# EAGLE library part ALTIMU-10_V4 (library @Club_Modules_capteurs)
Polulu AltIMU-10 v4 Gyro, Accelerometer, Compass, and Altimeter (L3GD20H, LSM303D, and LPS25H Carrier). https://www.pololu.com/product/2470 <3https://www.pololu.com/product/24703>
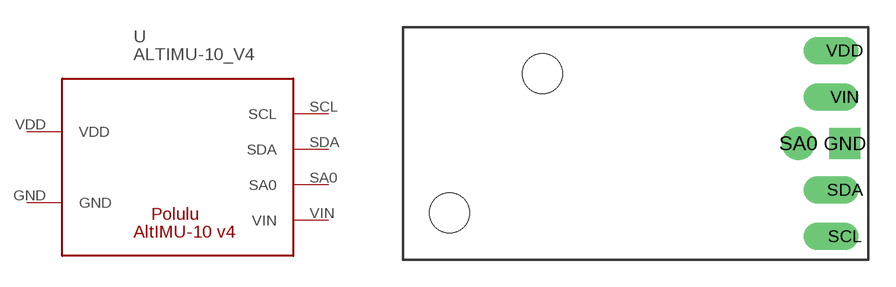
[diagram p0: symbol with the pads of ALTIMU-10_V4; footprint ALTIMU-10_V4]

Designator prefix -

## ALTIMU-10_V4  [ALTIMU-10_V4]
GND  GND
SA0  SA0
SCL  SCL
SDA  SDA
VDD  VDD
VIN  VIN

## Footprint ALTIMU-10_V4 (pad centres in mm)
drill 1 pad 1.676 square: GND -1.27,6.35
drill 1 pad 1.778: SA0 -3.81,6.35
drill 1 offset: SCL -1.27,1.27; SDA -1.27,3.81; VDD -1.27,11.43; VIN -1.27,8.89
hole 2.184 at -17.78,10.16
hole 2.184 at -22.86,2.54